# EAGLE library part LTC1144 (library GuShH)
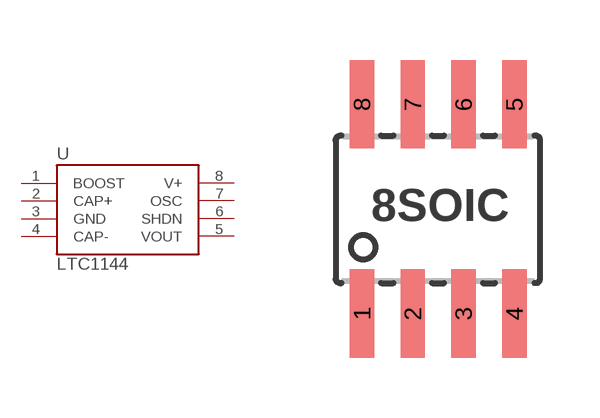
[diagram p0: symbol with the pads of 8-SOIC; footprint 8-SOIC]

Designator prefix -

## LTC1144CS8  [8-SOIC]
1  BOOST
2  CAP+
3  GND
4  CAP-
5  VOUT
6  SHDN
7  OSC
8  V+

## Footprint 8-SOIC (pad centres in mm)
smd 0.61 x 2.21: 1 -1.905,-2.616; 2 -0.635,-2.616; 3 0.635,-2.616; 4 1.905,-2.616; 5 1.905,2.616; 6 0.635,2.616; 7 -0.635,2.616; 8 -1.905,2.616